# EAGLE library part CUSTOM_DPDT_PS22F02 (library v13)
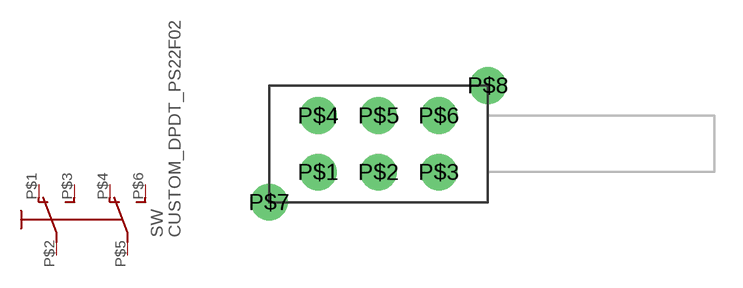
[diagram p7: symbol with the pads of CUSTOM_PS22_L02_DPDT_SW; footprint CUSTOM_PS22_L02_DPDT_SW]

Designator prefix SW

## CUSTOM_DPDT_PS22F02  [CUSTOM_PS22_L02_DPDT_SW]
P$1  O  pas
P$2  P  pas
P$3  S  pas
P$4  O1  pas
P$5  P1  pas
P$6  S1  pas

## Footprint CUSTOM_PS22_L02_DPDT_SW (pad centres in mm)
drill 1.3: P$1 0,0; P$2 3.2,0; P$3 6.4,0; P$4 0,3; P$5 3.2,3; P$6 6.4,3; P$7 -2.6,-1.6; P$8 9,4.6